# EAGLE library part TLE6361G (library micro-siemens)
Multi Voltage Microprocessor Power Supply
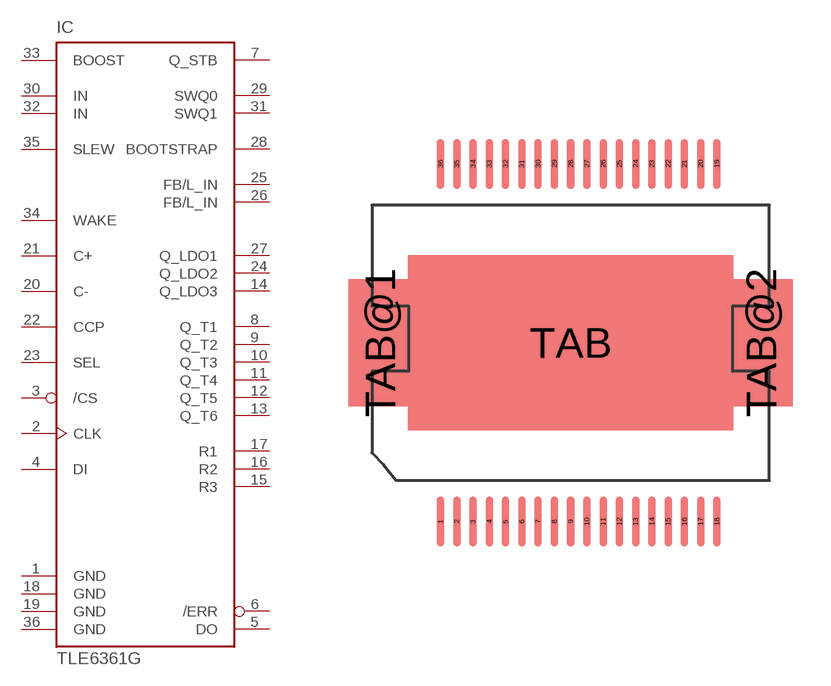
[diagram p67: symbol with the pads of DSO36; footprint DSO36]

Designator prefix IC

## TLE6361G (OC_FARNELL: unknown; OC_NEWARK: unknown)  [DSO36]
1  GND  pwr
2  CLK
3  /CS
4  DI
5  DO
6  /ERR
7  Q_STB
8  Q_T1
9  Q_T2
10  Q_T3
11  Q_T4
12  Q_T5
13  Q_T6
14  Q_LDO3
15  R3
16  R2
17  R1
18  GND  pwr
19  GND  pwr
20  C-
21  C+
22  CCP
23  SEL
24  Q_LDO2
25  FB/L_IN
26  FB/L_IN
27  Q_LDO1
28  BOOTSTRAP
29  SWQ0
30  IN
31  SWQ1
32  IN
33  BOOST
34  WAKE
35  SLEW
36  GND  pwr

## Footprint DSO36 (pad centres in mm)
DSO36 Source: TLE6361G
smd 0.3 x 2: 1 -5.2,-7.15; 2 -4.55,-7.15; 3 -3.9,-7.15; 4 -3.25,-7.15; 5 -2.6,-7.15; 6 -1.95,-7.15; 7 -1.3,-7.15; 8 -0.65,-7.15; 9 0,-7.15; 10 0.65,-7.15; 11 1.3,-7.15; 12 1.95,-7.15; 13 2.6,-7.15; 14 3.25,-7.15; 15 3.9,-7.15; 16 4.55,-7.15; 17 5.2,-7.15; 18 5.85,-7.15; 19 5.85,7.15; 20 5.2,7.15; 21 4.55,7.15; 22 3.9,7.15; 23 3.25,7.15; 24 2.6,7.15; 25 1.95,7.15; 26 1.3,7.15; 27 0.65,7.15; 28 0,7.15; 29 -0.65,7.15; 30 -1.3,7.15; 31 -1.95,7.15; 32 -2.6,7.15; 33 -3.25,7.15; 34 -3.9,7.15; 35 -4.55,7.15; 36 -5.2,7.15
smd 13 x 7: TAB 0,0
smd 2.543 x 5.08: TAB@1 -7.62,0; TAB@2 7.62,0